# EAGLE library part ASD-15S (library computronics.com.au)
15W DC-DC converter - regulated single output Specifications can be viewed at http://computronics.com.au/meanwell/asd15h-s/
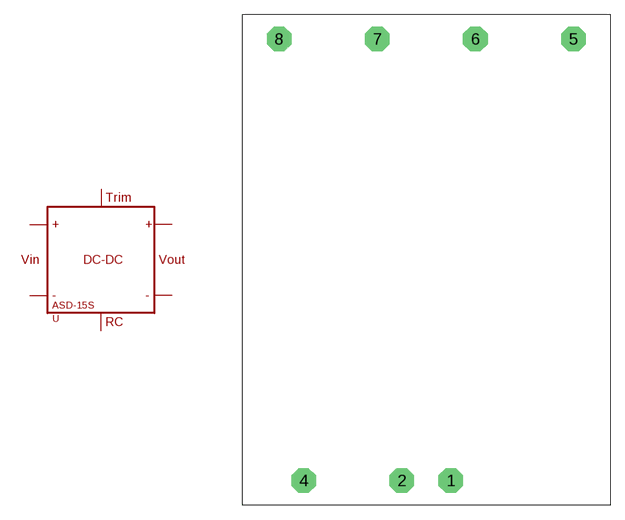
[diagram p11: symbol with the pads of ASD15; footprint ASD15]

Designator prefix -

## ASD-15S"  [ASD15]
1  +VIN  pwr
2  -VIN  pwr
4  RC
6  +VOUT  pwr
7  -VOUT  pwr
8  TRIM

## Footprint ASD15 (pad centres in mm)
DC-DC module
drill 1.27 pad 2.54 octagon: 1 5.08,-22.86; 2 0,-22.86; 4 -10.16,-22.86; 5 17.78,22.86; 6 7.62,22.86; 7 -2.54,22.86; 8 -12.7,22.86